# Altium schematic symbol library F05_XT-1WR3.SchLib: 1 symbol
Pins are listed as number, name and electrical type; pins without a type are passive.

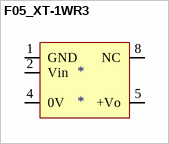
[diagram p0: symbol F05_XT-1WR3]

## F05_XT-1WR3
designator *
footprint F05_XT-1WR3
pins: 1 GND, 2 Vin, 4 0V, 5 +Vo, 8 NC